# EAGLE library part IC_TC7W74F (library psas_eagle_library)
SIngle D-FF
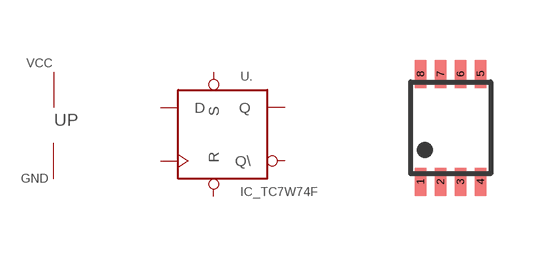
[diagram p23: symbol with the pads of SSOP-8P-0.50A; footprint SSOP-8P-0.50A]

Designator prefix U; gates .=D_FF P=VCC+GND

## IC_TC7W74FK  [SSOP-8P-0.50A]
1  .:C  in
2  .:D  in
3  .:Q\  out
4  P:GND  in
5  .:Q  out
6  .:R  in
7  .:S  in
8  P:VCC  in

## Footprint SSOP-8P-0.50A (pad centres in mm)
SSOP8-P-0.50A
smd 0.279 x 0.7: 1 -0.75,-1.35; 2 -0.25,-1.35; 3 0.25,-1.35; 4 0.75,-1.35; 5 0.75,1.35; 6 0.25,1.35; 7 -0.25,1.35; 8 -0.75,1.35